# EAGLE library part MFRC522 (library FansElectronics-RFID)
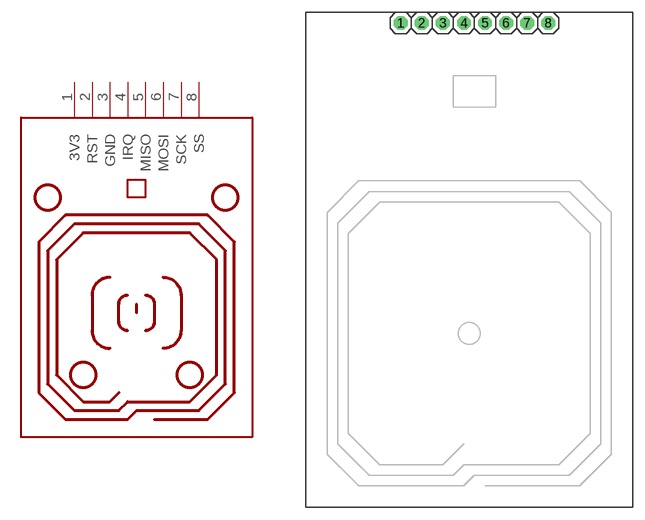
[diagram p1: symbol with the pads of MFRC522; footprint MFRC522]

Designator prefix RFID

## MFRC522  [MFRC522]
1  3V3
2  RST
3  GND
4  IRQ
5  MISO
6  MOSI
7  SCK
8  SS

## Footprint MFRC522 (pad centres in mm)
drill 1.016 pad 1.676 octagon: 1 -8.89,0; 2 -6.35,0; 3 -3.81,0; 4 -1.27,0; 5 1.27,0; 6 3.81,0; 7 6.35,0; 8 8.89,0